# Altium schematic symbol library MOSFET.SchLib: 1 symbol
Pins are listed as number, name and electrical type; pins without a type are passive.

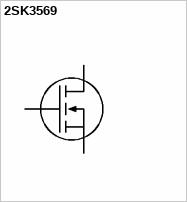
[diagram p0: symbol 2SK3569]

## 2SK3569
designator VT
2SK3569, Транзистор, TT-MOSVI, N-канал, 600В, 10А
footprint TO-220
pins: 1 Gate, 2 Drain, 3 Source